# Altium footprint library LCD_LCD2X16.PcbLib: 1 footprints
Each footprint in its own frame and in the unit in brackets; x right, y up, seen from the top. Pads: shape width x height; smd on the part's side, far side on the other; paste and mask are expansions set on the pad; w line width, h text height; cw(c..) or ccw(c..) is an arc to the next point about the centre after c.
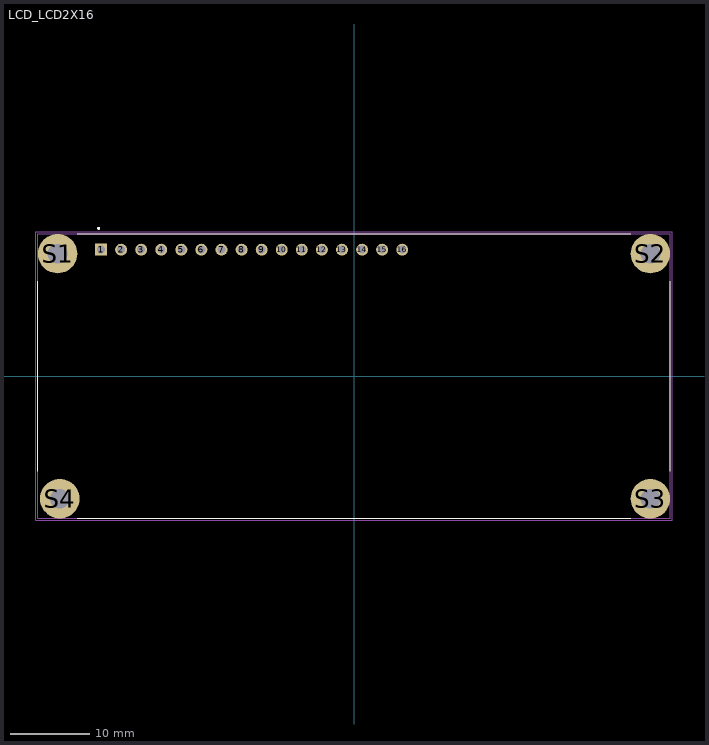
[diagram p0: the footprint, top view; thin cyan lines are the x and y axes]

## LCD_LCD2X16 [mm]
pads (20):
  rect 1.508x1.508 / inner round 1.508 / far side rect 1.508x1.508 hole 1: 1(-32,16)
  round 1.508 hole 1: 2(-29.46,16) 3(-26.92,16) 4(-24.38,16) 5(-21.84,16) 6(-19.3,16) 7(-16.76,16) 8(-14.22,16) 9(-11.68,16) 10(-9.14,16) 11(-6.6,16) 12(-4.06,16) 13(-1.52,16) 14(1.02,16) 15(3.56,16) 16(6.1,16)
  round 5 hole 2.5: S1(-37.5,15.5) S2(37.5,15.5) S3(37.5,-15.5) S4(-37.211,-15.494)
Top Overlay:
  circle w0.2: c-32.3,18.7 r0.1
  lines w0.127: -40,-12 -40,12 ; -35,-18 35,-18 ; -35,18 35,18 ; 40,-12 40,12
Assembly Top:
  circle w0.2: c-32.3,18.7 r0.1
  lines w0.127: -40,-18 40,-18 40,18 -40,18 -40,-18
Courtyard Top:
  lines w0.05: -40.25,-18.25 -40.25,18.25 40.25,18.25 40.25,-18.25 -40.25,-18.25
3D body "61301611821--3DModel-STEP-967685.STEP": height 8.55, standoff -3.05, extent -33.524,14.772 7.616,17.272
3D body "16-Pin Header - Male - 2.54mm.step": height 13.75, standoff 1.81, extent -33.147,14.859 7.493,17.399
3D body "M3_F_TO_F_10MM_STANDOFF.STEP": height 10, standoff 0, extent 35,-18.387 40,-12.613
3D body "M3_F_TO_F_10MM_STANDOFF.STEP": height 10, standoff 0, extent 35,12.613 40,18.387
3D body "M3_F_TO_F_10MM_STANDOFF.STEP": height 10, standoff 0, extent -40,12.613 -35,18.387
3D body "M3_F_TO_F_10MM_STANDOFF.STEP": height 10, standoff 0, extent -39.965,-18.542 -34.965,-12.768